# EAGLE library part MICRO-FIT_3.0_10POS_VERT_THRU (library Schuyler)
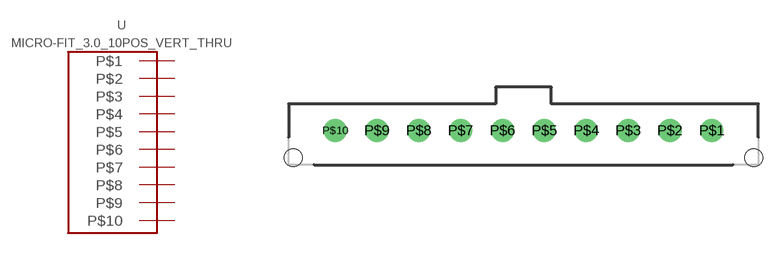
[diagram p7: symbol with the pads of MICRO-FIT_3.0_10POS_VERT_THROUGH; footprint MICRO-FIT_3.0_10POS_VERT_THROUGH]

Designator prefix -

## MICRO-FIT_3.0_10POS_VERT_THRU  [MICRO-FIT_3.0_10POS_VERT_THROUGH]
P$1  P$1
P$2  P$2
P$3  P$3
P$4  P$4
P$5  P$5
P$6  P$6
P$7  P$7
P$8  P$8
P$9  P$9
P$10  P$10

## Footprint MICRO-FIT_3.0_10POS_VERT_THROUGH (pad centres in mm)
http://www.molex.com/pdm_docs/sd/436500215_sd.pdf
drill 1.1: P$1 13.5,0; P$2 10.5,0; P$3 7.5,0; P$4 4.5,0; P$5 1.5,0; P$6 -1.5,0; P$7 -4.5,0; P$8 -7.5,0; P$9 -10.5,0; P$10 -13.5,0
hole 1.27 at 16.5,-1.96
hole 1.27 at -16.5,-1.96